# Altium footprint library lm5148_noVias.PcbLib: 1 footprints
Each footprint in its own frame and in the unit in brackets; x right, y up, seen from the top. Pads: shape width x height; smd on the part's side, far side on the other; paste and mask are expansions set on the pad; w line width, h text height; cw(c..) or ccw(c..) is an arc to the next point about the centre after c.
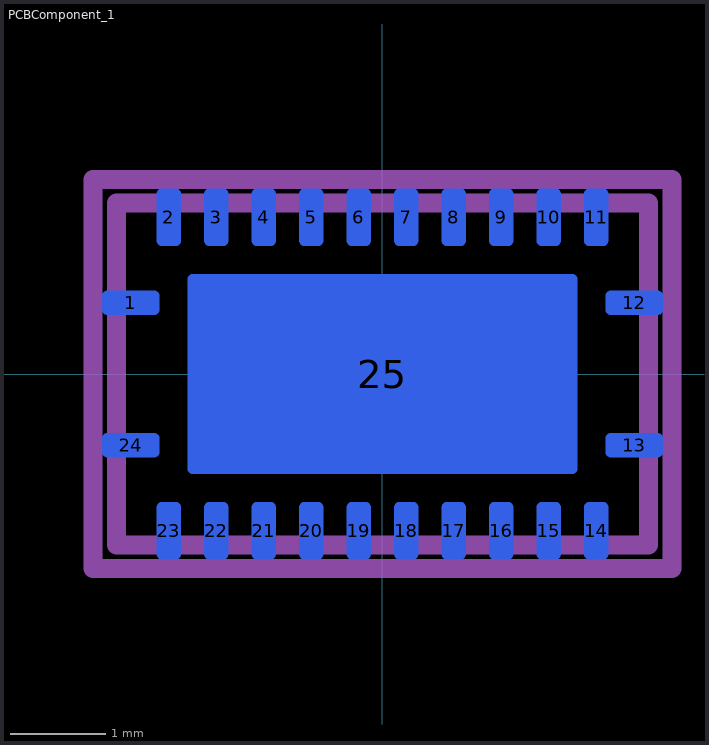
[diagram p0: the footprint, top view; thin cyan lines are the x and y axes]

## PCBComponent_1 [mm]
pads (25):
  rrect40% 0.6x0.25 smd far side paste+0 mask+0: 1(-2.65,0.75) 12(2.65,0.75) 13(2.65,-0.75) 24(-2.65,-0.75)
  rrect40% 0.25x0.6 smd far side paste+0 mask+0: 2(-2.25,1.65) 3(-1.75,1.65) 4(-1.25,1.65) 5(-0.75,1.65) 6(-0.25,1.65) 7(0.25,1.65) 8(0.75,1.65) 9(1.25,1.65) 10(1.75,1.65) 11(2.25,1.65) 14(2.25,-1.65) 15(1.75,-1.65) 16(1.25,-1.65) 17(0.75,-1.65) 18(0.25,-1.65) 19(-0.25,-1.65) 20(-0.75,-1.65) 21(-1.25,-1.65) 22(-1.75,-1.65) 23(-2.25,-1.65)
  rrect5% 4.1x2.1 smd far side paste-1000 mask+0: 25(0,0)
Bottom Overlay:
  circle w0.25: c-3.525,0.75 r0.125
  lines w0.2: -2.8,-1.25 -2.8,-1.8 -2.75,-1.8 ; -2.8,-0.25 -2.8,0.25 ; -2.8,1.25 -2.8,1.8 -2.75,1.8 ; 2.75,-1.8 2.8,-1.8 2.8,-1.25 ; 2.75,1.8 2.8,1.8 2.8,1.25 ; 2.8,-0.25 2.8,0.25
Bottom Paste:
  drawing of 6 lines, arcs and shapes, not listed
Bottom Assembly:
  lines w0.2: -3.05,-2.05 3.05,-2.05 3.05,2.05 -3.05,2.05 -3.05,-2.05
  text ".Designator" at -0.188,0 h1
Bottom Courtyard:
  lines w0.2: -3.05,-2.05 3.05,-2.05 3.05,2.05 -3.05,2.05 -3.05,-2.05
Bottom 3D Body:
  lines w0.2: -2.8,-1.8 2.8,-1.8 2.8,1.8 -2.8,1.8 -2.8,-1.8
Bottom Component Center:
  lines w0.1: -0.5,0 0.5,0 ; 0,-0.5 0,0.5
3D body "IC_Texas_Instruments_LM5148QRGYRQ1_eec.STEP": height 1, standoff 0, extent -2.75,-1.75 2.75,1.75